# EAGLE library part ADS7841P (library eagle-lib)
12-Bit, 4-Channel Serial Output Sampling Analog-to-Digital Converter
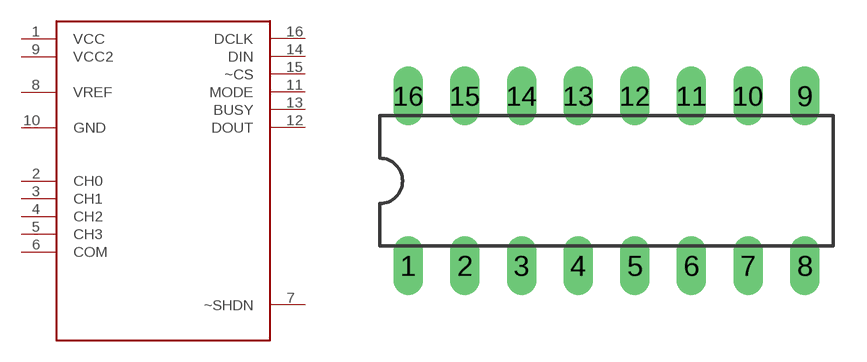
[diagram p1: symbol with the pads of DIL16; footprint DIL16]

Designator prefix -

## ADS7841P  [DIL16]
1  VCC  pwr
2  CH0  in
3  CH1  in
4  CH2  in
5  CH3  in
6  COM  in
7  ~SHDN  in
8  VREF  in
9  VCC2  pwr
10  GND  pas
11  MODE  in
12  DOUT  out
13  BUSY  out
14  DIN  in
15  ~CS  in
16  DCLK  in

## Footprint DIL16 (pad centres in mm)
Dual In Line Package
drill 0.813 long: 1 -8.89,-3.81; 2 -6.35,-3.81; 3 -3.81,-3.81; 4 -1.27,-3.81; 5 1.27,-3.81; 6 3.81,-3.81; 7 6.35,-3.81; 8 8.89,-3.81; 9 8.89,3.81; 10 6.35,3.81; 11 3.81,3.81; 12 1.27,3.81; 13 -1.27,3.81; 14 -3.81,3.81; 15 -6.35,3.81; 16 -8.89,3.81